# EAGLE library part BGM13S_DEV (library SI_BGM)
BGM121 - Blue Gecko BGM111 Bluetooth Smart� SiP Module Technical Specifications: Bluetooth 4.2 compliant Configurable TX power up to +8 dBm Range up to 200 meters ARM� Cortex-M4 @ up to 38.4 MHz Arrow: BGM121A256V1 <https://www.arrow.com/en/products/search?q=bgm121> Digikey: 336-3811-1-ND <https://www.digikey.com/product-search/en/rf-if-and-rfid/rf-transceiver-modules/3539948?k=bgm121> Mouser: 634-BGM121A256V1 <http://www.mouser.com/Search/Refine.aspx?Keyword=bgm121>
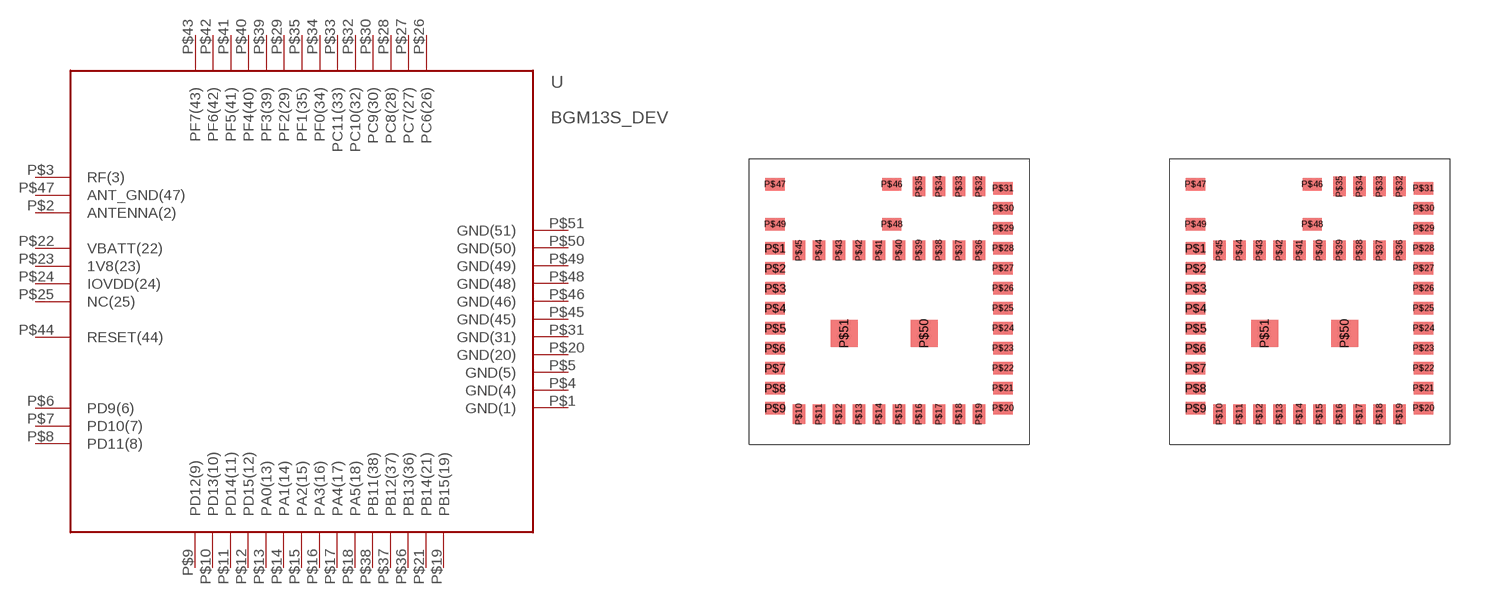
[diagram p1: symbol with the pads of BGM13S_PAC; footprints BGM13S_PAC, BGM13S_EXT]

Designator prefix -

## BGM13S_DEV  [BGM13S_PAC]
P$1  GND(1)  pwr
P$2  ANTENNA(2)
P$3  RF(3)
P$4  GND(4)  pwr
P$5  GND(5)  pwr
P$6  PD9(6)
P$7  PD10(7)
P$8  PD11(8)
P$9  PD12(9)
P$10  PD13(10)
P$11  PD14(11)
P$12  PD15(12)
P$13  PA0(13)
P$14  PA1(14)
P$15  PA2(15)
P$16  PA3(16)
P$17  PA4(17)
P$18  PA5(18)
P$19  PB15(19)
P$20  GND(20)  pwr
P$21  PB14(21)
P$22  VBATT(22)  pwr
P$23  1V8(23)  pwr
P$24  IOVDD(24)  pwr
P$25  NC(25)  nc
P$26  PC6(26)
P$27  PC7(27)
P$28  PC8(28)
P$29  PF2(29)
P$30  PC9(30)
P$31  GND(31)  pwr
P$32  PC10(32)
P$33  PC11(33)
P$34  PF0(34)
P$35  PF1(35)
P$36  PB13(36)
P$37  PB12(37)
P$38  PB11(38)
P$39  PF3(39)
P$40  PF4(40)
P$41  PF5(41)
P$42  PF6(42)
P$43  PF7(43)
P$44  RESET(44)  in
P$45  GND(45)  pwr
P$46  GND(46)  pwr
P$47  ANT_GND(47)
P$48  GND(48)  pwr
P$49  GND(49)  pwr
P$50  GND(50)  pwr
P$51  GND(51)  pwr

## BGM13S_DEVBGM13S_EXT  [BGM13S_EXT]
Pads as for BGM13S_PAC

## Footprint BGM13S_PAC (pad centres in mm)
smd 0.48 x 0.32: P$1 0,-1.6; P$2 0,-2.1; P$3 0,-2.6; P$4 0,-3.1; P$5 0,-3.6; P$6 0,-4.1; P$7 0,-4.6; P$8 0,-5.1; P$9 0,-5.6; P$20 5.7,-5.6; P$21 5.7,-5.1; P$22 5.7,-4.6; P$23 5.7,-4.1; P$24 5.7,-3.6; P$25 5.7,-3.1; P$26 5.7,-2.6; P$27 5.7,-2.1; P$28 5.7,-1.6; P$29 5.7,-1.1; P$30 5.7,-0.6; P$31 5.7,-0.1; P$46 2.92,0; P$47 0,0; P$48 2.92,-1; P$49 0,-1
smd 0.32 x 0.48: P$10 0.6,-5.75; P$11 1.1,-5.75; P$12 1.6,-5.75; P$13 2.1,-5.75; P$14 2.6,-5.75; P$15 3.1,-5.75; P$16 3.6,-5.75; P$17 4.1,-5.75; P$18 4.6,-5.75; P$19 5.1,-5.75; P$32 5.1,-0.05; P$33 4.6,-0.05; P$34 4.1,-0.05; P$35 3.6,-0.05; P$36 5.1,-1.65; P$37 4.6,-1.65; P$38 4.1,-1.65; P$39 3.6,-1.65; P$40 3.1,-1.65; P$41 2.6,-1.65; P$42 2.1,-1.65; P$43 1.6,-1.65; P$44 1.1,-1.65; P$45 0.6,-1.65
smd 0.67 x 0.67: P$50 3.73,-3.73; P$51 1.73,-3.73

## Footprint BGM13S_EXT (pad centres in mm)
smd 0.48 x 0.32: P$1 0,-1.6; P$2 0,-2.1; P$3 0,-2.6; P$4 0,-3.1; P$5 0,-3.6; P$6 0,-4.1; P$7 0,-4.6; P$8 0,-5.1; P$9 0,-5.6; P$20 5.7,-5.6; P$21 5.7,-5.1; P$22 5.7,-4.6; P$23 5.7,-4.1; P$24 5.7,-3.6; P$25 5.7,-3.1; P$26 5.7,-2.6; P$27 5.7,-2.1; P$28 5.7,-1.6; P$29 5.7,-1.1; P$30 5.7,-0.6; P$31 5.7,-0.1; P$46 2.92,0; P$47 0,0; P$48 2.92,-1; P$49 0,-1
smd 0.32 x 0.48: P$10 0.6,-5.75; P$11 1.1,-5.75; P$12 1.6,-5.75; P$13 2.1,-5.75; P$14 2.6,-5.75; P$15 3.1,-5.75; P$16 3.6,-5.75; P$17 4.1,-5.75; P$18 4.6,-5.75; P$19 5.1,-5.75; P$32 5.1,-0.05; P$33 4.6,-0.05; P$34 4.1,-0.05; P$35 3.6,-0.05; P$36 5.1,-1.65; P$37 4.6,-1.65; P$38 4.1,-1.65; P$39 3.6,-1.65; P$40 3.1,-1.65; P$41 2.6,-1.65; P$42 2.1,-1.65; P$43 1.6,-1.65; P$44 1.1,-1.65; P$45 0.6,-1.65
smd 0.67 x 0.67: P$50 3.73,-3.73; P$51 1.73,-3.73